# Altium footprint library SOT-23-Wide-6.PcbLib: 1 footprints
Each footprint in its own frame and in the unit in brackets; x right, y up, seen from the top. Pads: shape width x height; smd on the part's side, far side on the other; paste and mask are expansions set on the pad; w line width, h text height; cw(c..) or ccw(c..) is an arc to the next point about the centre after c.
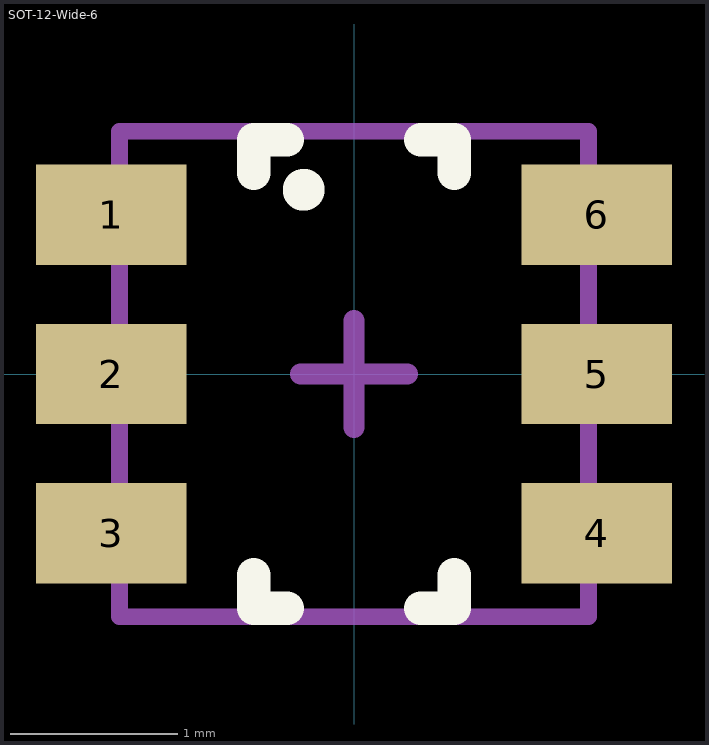
[diagram p0: the footprint, top view; thin cyan lines are the x and y axes]

## SOT-12-Wide-6 [mm]
pads (6):
  rect 0.9x0.6 smd mask+0.051: 1(-1.45,0.95) 2(-1.45,0) 3(-1.45,-0.95) 4(1.45,-0.95) 5(1.45,0) 6(1.45,0.95)
Top Overlay:
  circle w0.2: c-0.3,1.1 r0.025
  lines w0.2: -0.6,-1.2 -0.6,-1.4 -0.4,-1.4 ; -0.6,1.2 -0.6,1.4 -0.4,1.4 ; 0.4,-1.4 0.6,-1.4 0.6,-1.2 ; 0.4,1.4 0.6,1.4 0.6,1.2
Mechanical 13:
  lines w0.1: -1.4,-1.45 1.4,-1.45 1.4,1.45 -1.4,1.45 -1.4,-1.45
Mechanical 15:
  lines w0.127: -0.318,0 0.318,0 ; 0,-0.318 0,0.318
3D body "SOT-23-6.stp": height 1.2, standoff 0, extent -1.4,-1.45 1.4,1.45